# Altium footprint library TE_CONN_1892787-6.PcbLib: 1 footprints
Each footprint in its own frame and in the unit in brackets; x right, y up, seen from the top. Pads: shape width x height; smd on the part's side, far side on the other; paste and mask are expansions set on the pad; w line width, h text height; cw(c..) or ccw(c..) is an arc to the next point about the centre after c.
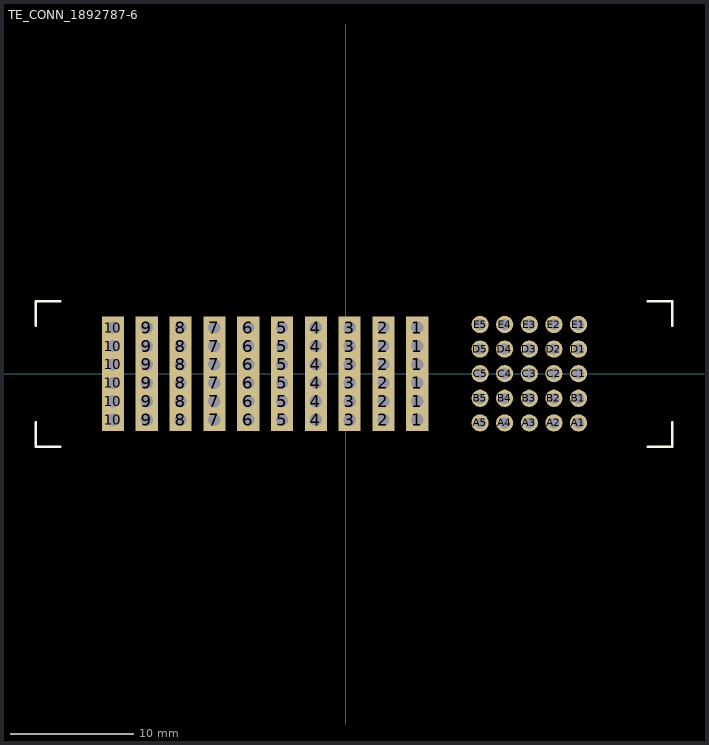
[diagram p0: the footprint, top view; thin cyan lines are the x and y axes]

## TE_CONN_1892787-6 [mm]
pads (85):
  rect 1.8x1.8 hole 1: 1(5.82,-3.75) 1(5.82,-2.25) 1(5.82,-0.75) 1(5.82,0.75) 1(5.82,2.25) 1(5.82,3.75) 2(3.07,-3.75) 2(3.07,-2.25) 2(3.07,-0.75) 2(3.07,0.75) 2(3.07,2.25) 2(3.07,3.75) 3(0.32,-3.75) 3(0.32,-2.25) 3(0.32,-0.75) 3(0.32,0.75) 3(0.32,2.25) 3(0.32,3.75) 4(-2.43,-3.75) 4(-2.43,-2.25) 4(-2.43,-0.75) 4(-2.43,0.75) 4(-2.43,2.25) 4(-2.43,3.75) 5(-5.18,-3.75) 5(-5.18,-2.25) 5(-5.18,-0.75) 5(-5.18,0.75) 5(-5.18,2.25) 5(-5.18,3.75) 6(-7.93,-3.75) 6(-7.93,-2.25) 6(-7.93,-0.75) 6(-7.93,0.75) 6(-7.93,2.25) 6(-7.93,3.75) 7(-10.68,-3.75) 7(-10.68,-2.25) 7(-10.68,-0.75) 7(-10.68,0.75) 7(-10.68,2.25) 7(-10.68,3.75) 8(-13.43,-3.75) 8(-13.43,-2.25) 8(-13.43,-0.75) 8(-13.43,0.75) 8(-13.43,2.25) 8(-13.43,3.75) 9(-16.18,-3.75) 9(-16.18,-2.25) 9(-16.18,-0.75) 9(-16.18,0.75) 9(-16.18,2.25) 9(-16.18,3.75) 10(-18.93,-3.75) 10(-18.93,-2.25) 10(-18.93,-0.75) 10(-18.93,0.75) 10(-18.93,2.25) 10(-18.93,3.75)
  round 1.4 hole 0.9: A1(18.93,-4) A2(16.93,-4) A3(14.93,-4) A4(12.93,-4) A5(10.93,-4) B1(18.93,-2) B2(16.93,-2) B3(14.93,-2) B4(12.93,-2) B5(10.93,-2) C1(18.93,0) C2(16.93,0) C3(14.93,0) C4(12.93,0) C5(10.93,0) D1(18.93,2) D2(16.93,2) D3(14.93,2) D4(12.93,2) D5(10.93,2) E1(18.93,4) E2(16.93,4) E3(14.93,4) E4(12.93,4) E5(10.93,4)
Top Overlay:
  lines w0.2: -25.2,-3.95 -25.2,-5.95 -23.2,-5.95 ; -25.2,3.9 -25.2,5.9 -23.2,5.9 ; 24.55,-5.95 26.55,-5.95 26.55,-3.95 ; 24.55,5.9 26.55,5.9 26.55,3.9
3D body "TE_CONN_1892787-6.stp": height 26.33, standoff -3.3, extent -25.199,-5.95 26.539,5.905